# EAGLE library part ST-TF-003A (library Mynd)
Micro SD Card Socket
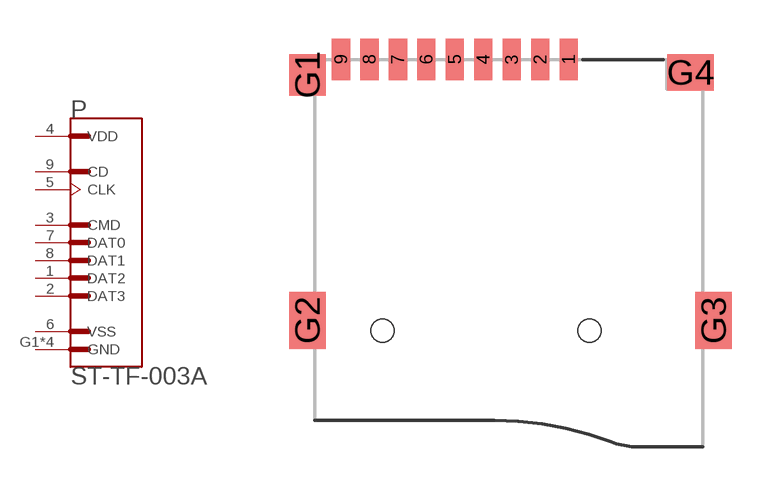
[diagram p1: symbol with the pads of SUNTECH_ST-TF-003A; footprint SUNTECH_ST-TF-003A]

Designator prefix P

## ST-TF-003A (MANUFACTURER: Suntech)  [SUNTECH_ST-TF-003A]
1  DAT2
2  DAT3
3  CMD
4  VDD  pwr
5  CLK  in
6  VSS  pas
7  DAT0
8  DAT1
9  CD  in
G1  GND  pas
G2  GND  pas
G3  GND  pas
G4  GND  pas

## Footprint SUNTECH_ST-TF-003A (pad centres in mm)
smd 0.7 x 1.6: 1 3.52,5.33; 2 2.42,5.33; 3 1.32,5.33; 4 0.22,5.33; 5 -0.88,5.33; 6 -1.98,5.33; 7 -3.08,5.33; 8 -4.18,5.33; 9 -5.28,5.33
smd 1.4 x 1.6: G1 -6.58,4.73
smd 1.4 x 2.2: G2 -6.58,-4.77; G3 9.12,-4.77
smd 1.8 x 1.4: G4 8.22,4.83
hole 0.9 at -3.68,-5.17
hole 0.9 at 4.32,-5.17